# Altium schematic symbol library Library 3D.SchLib: 259 symbols (part 2 of 2)
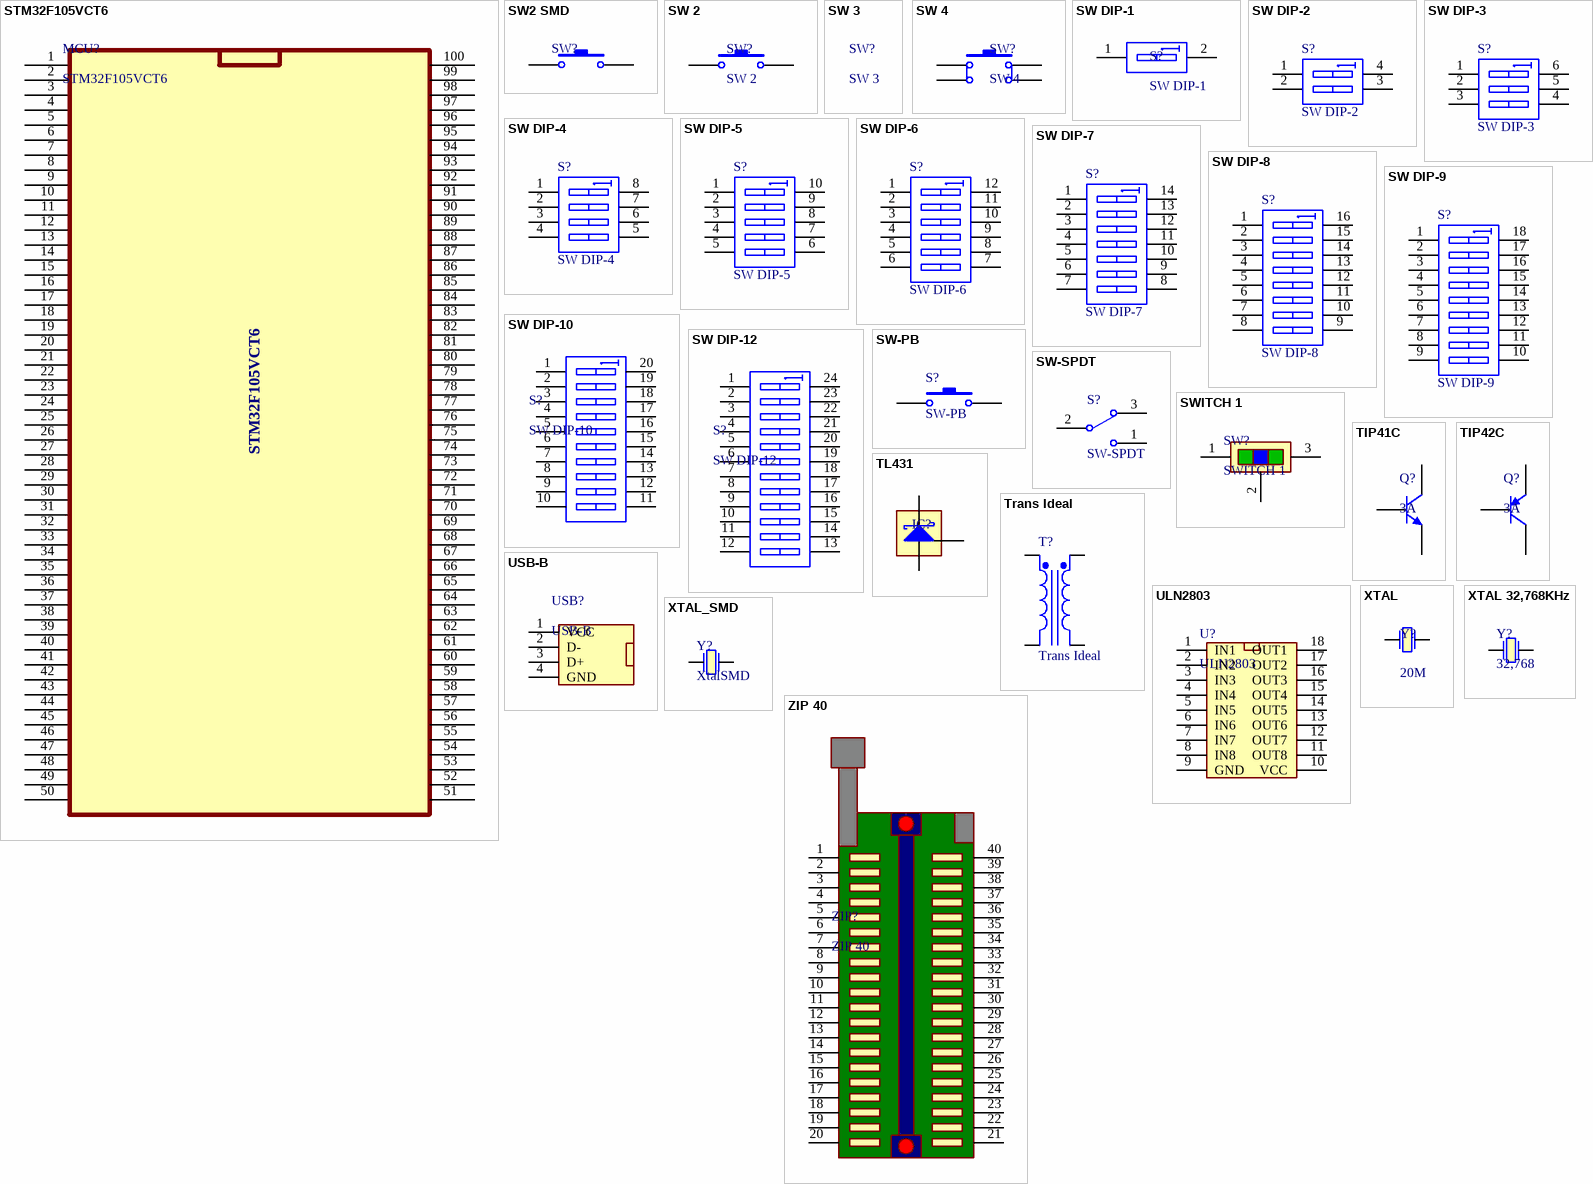
[diagram p8: symbols STM32F105VCT6 to ZIP 40]

## SW DIP-8
designator S?
Published: 24-Mar-1999; LatestRevisionDate: 17-Jul-2002; LatestRevisionNote: Re-released for DXP Platform.; PackageReference: DIP_SW_8WAY_SMD; Publisher: Altium Limited; PackageDescription: DIP Switch; 16 Leads
footprint DIP SWITCH 8B
pins: 1 A1, 2 A2, 3 A3, 4 A4, 5 A5, 6 A6, 7 A7, 8 A8, 9 B8, 10 B7, 11 B6, 12 B5, 13 B4, 14 B3, 15 B2, 16 B1

## SW DIP-9
designator S?
Published: 24-Mar-1999; LatestRevisionDate: 17-Jul-2002; LatestRevisionNote: Re-released for DXP Platform.; PackageReference: DIP-18; Publisher: Altium Limited; Code_JEDEC: MO-036-AE
footprint DIP SWITCH 9
pins: 1 A1, 2 A2, 3 A3, 4 A4, 5 A5, 6 A6, 7 A7, 8 A8, 9 A9, 10 B9, 11 B8, 12 B7, 13 B6, 14 B5, 15 B4, 16 B3, 17 B2, 18 B1

## SW DIP-10
designator S?
footprint DIP SWITCH 10
pins: 1 A1, 2 A2, 3 A3, 4 A4, 5 A5, 6 A6, 7 A7, 8 A8, 9 A9, 10, 11 B8, 12 B7, 13 B6, 14 B5, 15 B4, 16 B3, 17 B2, 18 B1, 19, 20

## SW DIP-12
designator S?
footprint DIP SWITCH 12
pins: 1 A1, 2 A2, 3 A3, 4 A4, 5 A5, 6 A6, 7 A7, 8 A8, 9 A9, 10, 11 B8, 12 B7, 13 B6, 14 B5, 15 B4, 16 B3, 17 B2, 18 B1, 19, 20, 21, 22, 23, 24

## SW-PB
designator S?
Published: 24-Mar-1999; LatestRevisionDate: 17-Jul-2002; LatestRevisionNote: Re-released for DXP Platform.; PackageReference: SPST-2; Publisher: Altium Limited; PackageDescription: Switch; 2 Leads
footprint SW2-6mm
pins: 1, 2

## SW-SPDT
designator S?
Published: 24-Mar-1999; LatestRevisionDate: 17-Dec-2003; LatestRevisionNote: Schematic revised, PCB Footprint replaced.; DatasheetVersion: 05-Dec-2000; PackageReference: TL36WW15050; Publisher: Altium Limited; PackageDescription: Switch; 4 Leads; ComponentLink1Description: Manufacturer Link; ComponentLink1URL: http://www.apem.com
footprint SWITCH 1
pins: 1, 2, 3

## SWITCH 1
designator SW?
footprint SWITCH 1
pins: 0 hidden to GND, 1, 2, 3

## TIP41C
designator Q?, comment 3A
footprint TO220_1
pins: 1 B, 2 C, 3 E

## TIP42C
designator Q?, comment 3A
footprint TO220_1
pins: 1 B, 2 C, 3 E

## TL431
designator IC?
footprint TO92A
pins: 1, 2, 3

## Trans Ideal
designator T?
Published: 8-Jun-2000; LatestRevisionDate: 17-Jul-2002; LatestRevisionNote: Re-released for DXP Platform.; PackageReference: TRF_4; Publisher: Altium Limited; PackageDescription: Transformer; 4 Leads
footprint Inductor
pins: 1 Pri+, 2 Pri-, 3 Sec+, 4 Sec-

## ULN2803
designator U?
footprint DIP18
pins: 1 IN1, 2 IN2, 3 IN3, 4 IN4, 5 IN5, 6 IN6, 7 IN7, 8 IN8, 9 GND, 10 VCC, 11 OUT8, 12 OUT7, 13 OUT6, 14 OUT5, 15 OUT4, 16 OUT3, 17 OUT2, 18 OUT1

## USB-B
designator USB?
footprint USB-B1
footprint USB-B
pins: 1 VCC, 2 D-, 3 D+, 4 GND

## XTAL
designator Y?, comment 20M
Published: 8-Jun-2000; LatestRevisionDate: 17-Jul-2002; LatestRevisionNote: Re-released for DXP Platform.; PackageReference: R38; Publisher: Altium Limited; PackageDescription: Crystal, Thru-Hole; 2 Leads; Body 3.1 x 8.2 mm (Dia.xH)
footprint CRYSTAL 20M
pins: 1, 2

## XTAL 32,768KHz
designator Y?, comment 32,768
footprint CRYSTAL 32,768
pins: 1, 2

## XTAL_SMD
designator Y?, comment XtalSMD
footprint HC49 SMD
pins: 1, 2

## ZIP 40
designator ZIP?
footprint ZIP 40A
footprint ZIP 40B
pins: 1, 2, 3, 4, 5, 6, 7, 8, 9, 10, 11, 12, 13, 14, 15, 16, 17, 18, 19, 20, 21, 22, 23, 24, 25, 26, 27, 28, 29, 30, 31, 32, 33, 34, 35, 36, 37, 38, 39, 40